# Altium schematic symbol library DMG2302UK-7.SchLib: 1 symbol
Pins are listed as number, name and electrical type; pins without a type are passive.

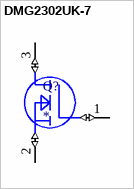
[diagram p0: symbol DMG2302UK-7]

## DMG2302UK-7
designator Q?
N-Channel 20 V 2.8A (Ta) 660mW (Ta) Surface Mount SOT-23-3; MP: DMG2302UK-7; MF: Diodes Inc.; SnapEDA_Link: https://www.snapeda.com/parts/DMG2302UK-7/Diodes+Inc./view-part/?ref=snap; Price: None; Purchase-URL: https://pricing.snapeda.com/search/part/DMG2302UK-7/?ref=eda; Check_prices: https://www.snapeda.com/parts/DMG2302UK-7/Diodes+Inc./view-part/?ref=eda; Availability: In Stock; Value: *; Package: SOT-23 Diodes Inc.
footprint SOT91P240X105-3N
pins: 1 G (io), 2 S (io), 3 D (io)